# Altium footprint library lib.PcbLib: 4 footprints
Each footprint in its own frame and in the unit in brackets; x right, y up, seen from the top. Pads: shape width x height; smd on the part's side, far side on the other; paste and mask are expansions set on the pad; w line width, h text height; cw(c..) or ccw(c..) is an arc to the next point about the centre after c.
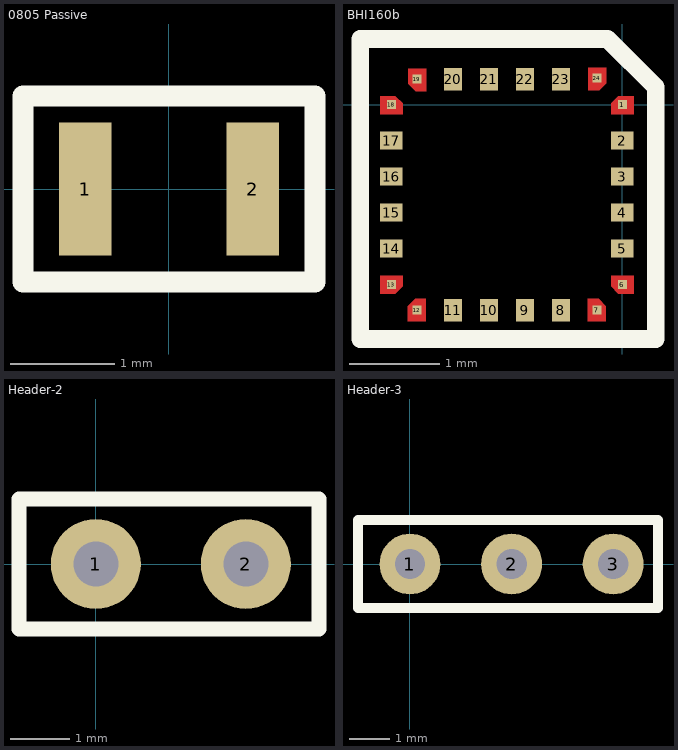
[diagram p0: the footprints below, top view; thin cyan lines are the x and y axes]

## 0805 Passive [mm]
pads (2):
  rect 0.5x1.27 smd: 1(-0.8,0) 2(0.8,0)
Top Overlay:
  lines w0.2: -1.397,-0.889 1.397,-0.889 1.397,0.889 -1.397,0.889 -1.397,0.518 -1.397,-0.889

## BHI160b [mm]
pads (24):
  rect 0.1x0.1 smd paste+0 mask+0: 1(0,0) 24(-0.285,0.295)
  rect 0.25x0.2 smd paste+0 mask+0.03: 2(0,-0.4) 3(0,-0.8) 4(0,-1.2) 5(0,-1.6) 14(-2.57,-1.6) 15(-2.57,-1.2) 16(-2.57,-0.8) 17(-2.57,-0.4)
  rect 0.1x0.1 smd paste+0 mask+0.03: 6(0,-2) 7(-0.285,-2.285) 12(-2.285,-2.285) 13(-2.57,-2) 18(-2.57,0) 19(-2.285,0.285)
  rect 0.2x0.25 smd paste+0 mask+0.03: 8(-0.685,-2.285) 9(-1.085,-2.285) 10(-1.485,-2.285) 11(-1.885,-2.285) 20(-1.885,0.285) 21(-1.485,0.285) 22(-1.085,0.285) 23(-0.685,0.285)
Top Layer:
  region: -2.385,-2.24 -2.305,-2.16 -2.185,-2.16 -2.185,-2.41 -2.385,-2.41
  region: -2.445,-2.02 -2.525,-2.1 -2.695,-2.1 -2.695,-1.9 -2.445,-1.9
  region: -0.045,-2.1 -0.125,-2.02 -0.125,-1.9 0.125,-1.9 0.125,-2.1
  region: -0.265,-2.16 -0.185,-2.24 -0.185,-2.41 -0.385,-2.41 -0.385,-2.16
  region: -2.525,0.095 -2.445,0.015 -2.445,-0.105 -2.695,-0.105 -2.695,0.095
  region: -2.3,0.15 -2.38,0.23 -2.38,0.4 -2.18,0.4 -2.18,0.15
  region: -0.18,0.24 -0.26,0.16 -0.38,0.16 -0.38,0.41 -0.18,0.41
  region: -0.125,0.015 -0.045,0.095 0.125,0.095 0.125,-0.105 -0.125,-0.105
Top Overlay:
  lines w0.2: -2.915,-2.605 0.37,-2.605 0.37,0.195 -0.165,0.73 -0.919,0.73 -1.936,0.73 -2.915,0.73 -2.915,-2.605

## Header-2 [mil]
pads (2):
  round 60 hole 30: 1(0,0) 2(100,0)
Top Overlay:
  lines w10: -51.18,-43.31 -51.18,43.31 148.82,43.31 148.82,-43.31 -51.18,-43.31

## Header-3 [mil]
pads (3):
  round 60 hole 30: 1(0,0) 2(100,0) 3(200,0)
Top Overlay:
  lines w10: -51.18,-43.31 244.09,-43.31 244.09,43.31 -51.18,43.31 -51.18,-43.31